# EAGLE library part GP-735T (library SparkFun-GPS)
ADH-tech GP-735 - Easy-to-use, Ultra-high performance, GPS Smart Antenna Module ADH-tech GP-735 is a slim, ultra-high performance, easy to use GPS smart antenna module designed with u-blox’s latest 7th generation single chip. This feature rich GPS module not only shortens the design efforts but also provides powerful functions. The compact design allows fast adoption and high yield production. The power control feature is very convenient to turn on/off power just via GPIO control pin. It’s especially useful to turn off power as the GPS function is not needed in the host applications. Datasheet <https://cdn.sparkfun.com/datasheets/GPS/GP-735T-150203.pdf> SparkFun Products GPS Receiver - GP-735 (56 Channel) <https://www.sparkfun.com/products/13670> (GPS-13670)
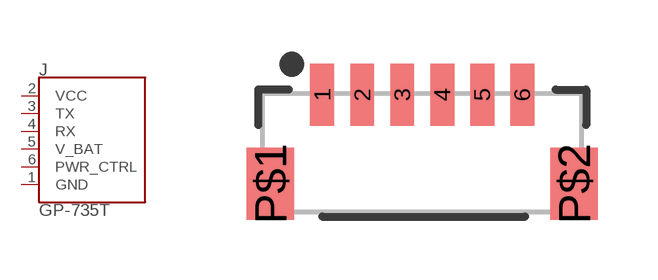
[diagram p13: symbol with the pads of JST-6PIN-1MM; footprint JST-6PIN-1MM]

Designator prefix J

## GP-735T-VERTICAL (PROD_ID: CONN-08249)  [JST-6PIN-1MM]
1  GND
2  VCC
3  TX
4  RX
5  V_BAT
6  PWR_CTRL

## Footprint JST-6PIN-1MM (pad centres in mm)
6-Pin Vertical JST Connector 1.0mm pitch JST-SH type Common interface for SparkFun GPS modules. Datasheet <http://www.sparkfun.com/datasheets/GPS/EM406-SMDConnector-eSH.pdf>
smd 0.6 x 1.55: 1 -2.5,1.45; 2 -1.5,1.45; 3 -0.5,1.45; 4 0.5,1.45; 5 1.5,1.45; 6 2.5,1.45
smd 1.2 x 1.8: P$1 -3.8,-0.775; P$2 3.8,-0.775